# Altium footprint library DIOAD1550W90L510D260.PcbLib: 1 footprints
Each footprint in its own frame and in the unit in brackets; x right, y up, seen from the top. Pads: shape width x height; smd on the part's side, far side on the other; paste and mask are expansions set on the pad; w line width, h text height; cw(c..) or ccw(c..) is an arc to the next point about the centre after c.
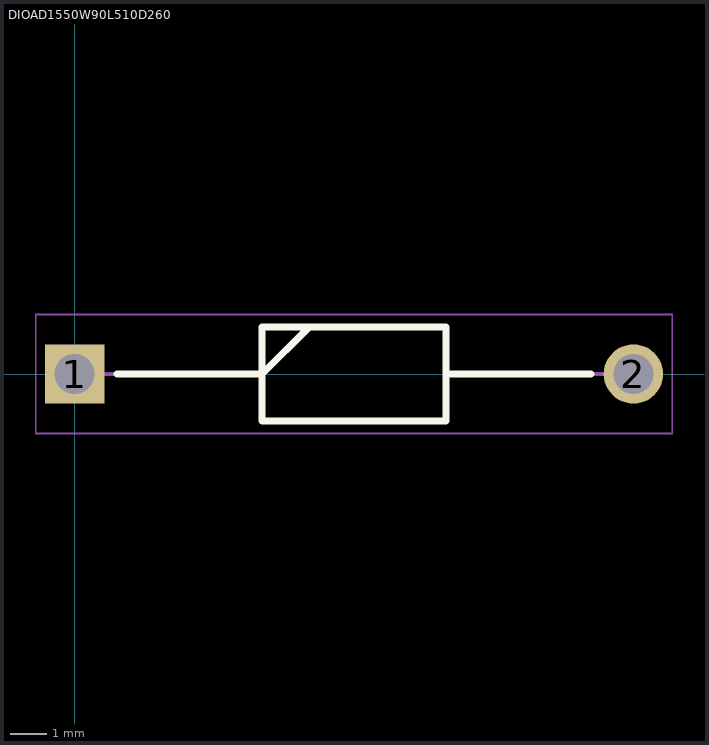
[diagram p0: the footprint, top view; thin cyan lines are the x and y axes]

## DIOAD1550W90L510D260 [mm]
pads (2):
  rect 1.65x1.65 / inner round 1.65 / far side rect 1.65x1.65 hole 1.1: 1(0,0)
  round 1.65 hole 1.1: 2(15.5,0)
Top Overlay:
  lines w0.2: 1.175,0 5.2,0 6.5,1.3 ; 10.3,0 14.325,0 ; 5.2,-1.3 10.3,-1.3 10.3,1.3 5.2,1.3 5.2,-1.3
Mechanical 15:
  lines w0.1: 0,0 5.2,0 6.5,1.3 ; 10.3,0 15.5,0 ; 5.2,-1.3 10.3,-1.3 10.3,1.3 5.2,1.3 5.2,-1.3
Mechanical 20:
  lines w0.05: -1.075,-1.65 16.575,-1.65 16.575,1.65 -1.075,1.65 -1.075,-1.65